# Altium footprint library HeaderSMD2x12 2mm.PcbLib: 1 footprints
Each footprint in its own frame and in the unit in brackets; x right, y up, seen from the top. Pads: shape width x height; smd on the part's side, far side on the other; paste and mask are expansions set on the pad; w line width, h text height; cw(c..) or ccw(c..) is an arc to the next point about the centre after c.
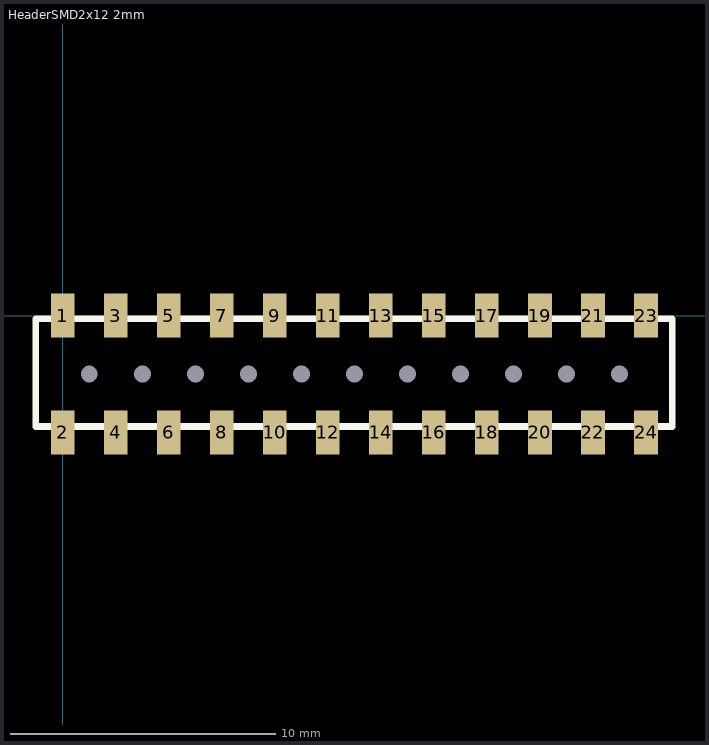
[diagram p0: the footprint, top view; thin cyan lines are the x and y axes]

## HeaderSMD2x12 2mm [mil]
pads (35):
  rect 35x66 smd: 1(0,0) 2(0,-173.74) 3(78.74,0) 4(78.74,-173.74) 5(157.48,0) 6(157.48,-173.74) 7(236.22,0) 8(236.22,-173.74) 9(314.96,0) 10(314.96,-173.74) 11(393.7,0) 12(393.7,-173.74) 13(472.44,0) 14(472.44,-173.74) 15(551.18,0) 16(551.18,-173.74) 17(629.92,0) 18(629.92,-173.74) 19(708.66,0) 20(708.66,-173.74) 21(787.4,0) 22(787.4,-173.74) 23(866.14,0) 24(866.14,-173.74)
  round 0 hole 25.2 unplated: MH(39.37,-86.87) MH(118.11,-86.87) MH(196.85,-86.87) MH(275.59,-86.87) MH(354.33,-86.87) MH(433.07,-86.87) MH(511.81,-86.87) MH(590.55,-86.87) MH(669.29,-86.87) MH(748.03,-86.87) MH(826.77,-86.87)
Top Overlay:
  lines w10: -40,-165 905,-165 905,-5 -40,-5 -40,-165